# Altium schematic symbol library RLC.SchLib: 23 symbols
Pins are listed as number, name and electrical type; pins without a type are passive.

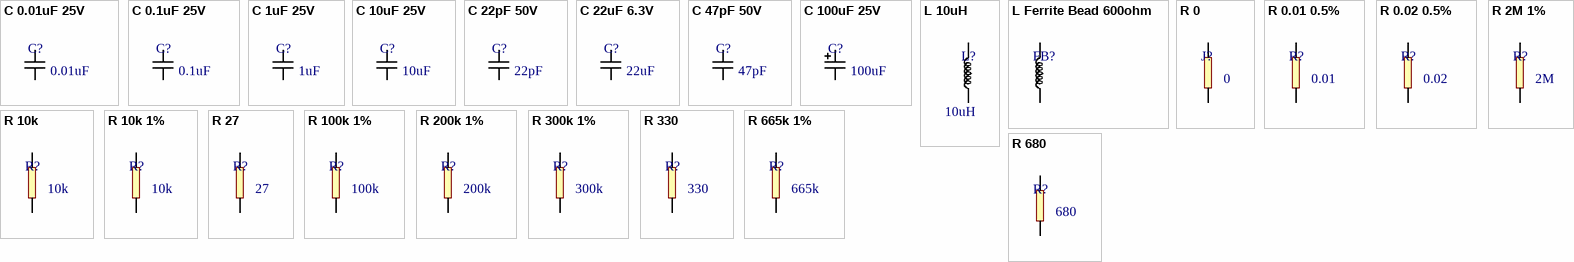
[diagram p0: symbols C 0.01uF 25V to R 680]

## C 0.01uF 25V
designator C?  C: 0.01uF  (hidden comment: *)
Supplier 1: Digi-Key; Supplier Part Number 1: 1276-1919-1-ND
footprint 0603
pins: 1, 2

## C 0.1uF 25V
designator C?  C: 0.1uF  (hidden comment: *)
Supplier 1: Digi-Key; Supplier Part Number 1: 445-1316-1-ND
footprint 0603
pins: 1, 2

## C 1uF 25V
designator C?  C: 1uF  (hidden comment: *)
Supplier 1: Digi-Key; Supplier Part Number 1: 1276-1858-1-ND
footprint 0603
pins: 1, 2

## C 10uF 25V
designator C?  C: 10uF  (hidden comment: *)
Supplier 1: Digi-Key; Supplier Part Number 1: 445-9015-1-ND
footprint 0603
pins: 1, 2

## C 22pF 50V
designator C?  C: 22pF  (hidden comment: *)
Supplier 1: Digi-Key; Supplier Part Number 1: 445-1273-1-ND
footprint 0603
pins: 1, 2

## C 22uF 6.3V
designator C?  C: 22uF  (hidden comment: *)
Supplier 1: Digi-Key; Supplier Part Number 1: 1276-1193-1-ND
footprint 0603
pins: 1, 2

## C 47pF 50V
designator C?  C: 47pF  (hidden comment: *)
Supplier 1: Digi-Key; Supplier Part Number 1: 1276-1037-1-ND
footprint 0603
pins: 1, 2

## C 100uF 25V
designator C?  C: 100uF  (hidden comment: *)
Supplier 1: Digi-Key; Supplier 2: Allied; Supplier Part Number 1: PCE3898CT-ND; Supplier Part Number 2: 70257965
footprint RADIAL CAP 6.5mm
pins: 1, 2

## L 10uH
designator L?  L: 10uH  (hidden comment: *)
Supplier 1: Digi-Key; Supplier Part Number 1: 490-4025-1-ND
footprint 0603
pins: 1, 2

## L Ferrite Bead 600ohm
designator FB?  (value not drawn)
Supplier 1: Digi-Key; Supplier Part Number 1: 732-1593-1-ND
footprint 0603
pins: 1, 2

## R 0
designator J?  R: 0  (hidden comment: *)
Supplier 1: Digi-Key; Supplier Part Number 1: RHM0.0GCT-ND
footprint 0603
pins: 1, 2

## R 0.01 0.5%
designator R?  R: 0.01  (hidden comment: *)
Supplier 1: Digi-Key; Supplier Part Number 1: LVK12R010DERCT-ND
footprint 1206 SPLIT
pins: 1, 2

## R 0.02 0.5%
designator R?  R: 0.02  (hidden comment: *)
Supplier 1: Digi-Key; Supplier Part Number 1: LVK12R020DERDKR-ND
footprint 1206 SPLIT
pins: 1, 2

## R 2M 1%
designator R?  R: 2M  (hidden comment: *)
Supplier 1: Digi-Key; Supplier Part Number 1: 311-2.00MHRCT-ND
footprint 0603
pins: 1, 2

## R 10k
designator R?  R: 10k  (hidden comment: *)
Supplier 1: Digi-Key; Supplier Part Number 1: 311-10KGRCT-ND
footprint 0603
pins: 1, 2

## R 10k 1%
designator R?  R: 10k  (hidden comment: *)
Supplier 1: Digi-Key; Supplier Part Number 1: 311-10.0KHRCT-ND
footprint 0603
pins: 1, 2

## R 27
designator R?  R: 27  (hidden comment: *)
Supplier 1: Digi-Key; Supplier Part Number 1: 311-27GRCT-ND
footprint 0603
pins: 1, 2

## R 100k 1%
designator R?  R: 100k  (hidden comment: *)
Supplier 1: Digi-Key; Supplier Part Number 1: 311-100KHRCT-ND
footprint 0603
pins: 1, 2

## R 200k 1%
designator R?  R: 200k  (hidden comment: *)
Supplier 1: Digi-Key; Supplier Part Number 1: 311-200KHRCT-ND
footprint 0603
pins: 1, 2

## R 300k 1%
designator R?  R: 300k  (hidden comment: *)
Supplier 1: Digi-Key; Supplier Part Number 1: 311-300KHRCT-ND
footprint 0603
pins: 1, 2

## R 330
designator R?  R: 330  (hidden comment: *)
Supplier 1: Digi-Key; Supplier Part Number 1: 311-330GRCT-ND
footprint 0603
pins: 1, 2

## R 665k 1%
designator R?  R: 665k  (hidden comment: *)
Supplier 1: Digi-Key; Supplier Part Number 1: 311-665KHRCT-ND
footprint 0603
pins: 1, 2

## R 680
designator R?  R: 680  (hidden comment: *)
Supplier 1: Digi-Key; Supplier Part Number 1: 311-680GRCT-ND
footprint 0603
pins: 1, 2